# Altium footprint library Data Acquisition - Analog to Digital Converters (ADC).PcbLib: 3 footprints
Each footprint in its own frame and in the unit in brackets; x right, y up, seen from the top. Pads: shape width x height; smd on the part's side, far side on the other; paste and mask are expansions set on the pad; w line width, h text height; cw(c..) or ccw(c..) is an arc to the next point about the centre after c.
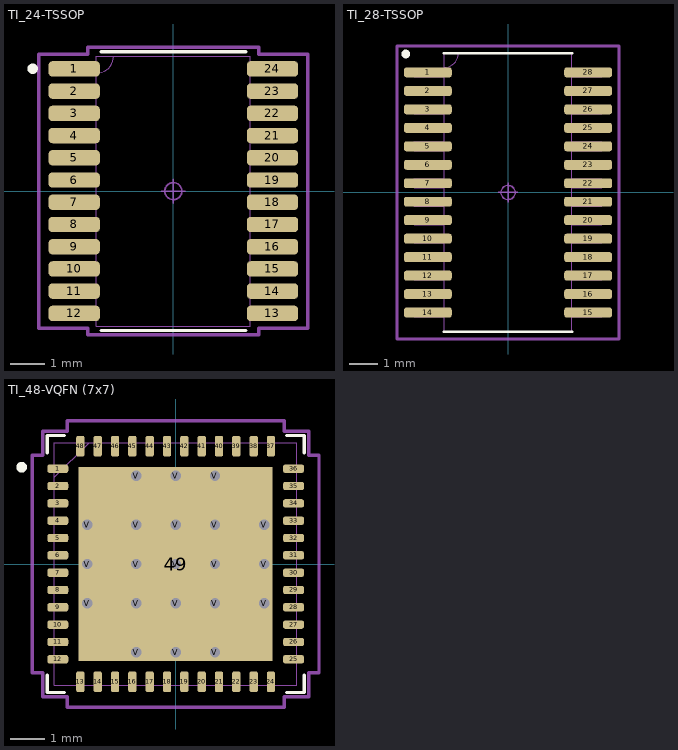
[diagram p0: the footprints below, top view; thin cyan lines are the x and y axes]

## TI_24-TSSOP [mm]
pads (24):
  rrect50% 1.5x0.45 smd mask+0.04: 1(-2.9,3.575) 2(-2.9,2.925) 3(-2.9,2.275) 4(-2.9,1.625) 5(-2.9,0.975) 6(-2.9,0.325) 7(-2.9,-0.325) 8(-2.9,-0.975) 9(-2.9,-1.625) 10(-2.9,-2.275) 11(-2.9,-2.925) 12(-2.9,-3.575) 13(2.9,-3.575) 14(2.9,-2.925) 15(2.9,-2.275) 16(2.9,-1.625) 17(2.9,-0.975) 18(2.9,-0.325) 19(2.9,0.325) 20(2.9,0.975) 21(2.9,1.625) 22(2.9,2.275) 23(2.9,2.925) 24(2.9,3.575)
Top Overlay:
  circle w0.152: c-4.115,3.581 r0.076
  lines w0.1: -2.116,-4.077 2.116,-4.077 ; -2.116,4.077 2.116,4.077
Mechanical 13:
  lines w0.025: -2.248,3.45 ccw(c-2.248,3.95) -1.748,3.95 ; -3.302,-3.727 -2.248,-3.727 -2.248,-3.423 -3.302,-3.423 -3.302,-3.727 ; -3.302,-3.077 -2.248,-3.077 -2.248,-2.773 -3.302,-2.773 -3.302,-3.077 ; -3.302,-2.427 -2.248,-2.427 -2.248,-2.123 -3.302,-2.123 -3.302,-2.427 ; -3.302,-1.777 -2.248,-1.777 -2.248,-1.473 -3.302,-1.473 -3.302,-1.777 ; -3.302,-1.127 -2.248,-1.127 -2.248,-0.823 -3.302,-0.823 -3.302,-1.127 ; -3.302,-0.477 -2.248,-0.477 -2.248,-0.173 -3.302,-0.173 -3.302,-0.477 ; -3.302,0.173 -2.248,0.173 -2.248,0.477 -3.302,0.477 -3.302,0.173 ; -3.302,0.823 -2.248,0.823 -2.248,1.127 -3.302,1.127 -3.302,0.823 ; -3.302,1.473 -2.248,1.473 -2.248,1.777 -3.302,1.777 -3.302,1.473 ; -3.302,2.123 -2.248,2.123 -2.248,2.427 -3.302,2.427 -3.302,2.123 ; -3.302,2.773 -2.248,2.773 -2.248,3.077 -3.302,3.077 -3.302,2.773 ; -3.302,3.423 -2.248,3.423 -2.248,3.727 -3.302,3.727 -3.302,3.423 ; -2.248,-3.95 -2.248,3.95 2.248,3.95 2.248,-3.95 -2.248,-3.95 ; 2.248,-3.727 3.302,-3.727 3.302,-3.423 2.248,-3.423 2.248,-3.727 ; 2.248,-3.077 3.302,-3.077 3.302,-2.773 2.248,-2.773 2.248,-3.077 ; 2.248,-2.427 3.302,-2.427 3.302,-2.123 2.248,-2.123 2.248,-2.427 ; 2.248,-1.777 3.302,-1.777 3.302,-1.473 2.248,-1.473 2.248,-1.777 ; 2.248,-1.127 3.302,-1.127 3.302,-0.823 2.248,-0.823 2.248,-1.127 ; 2.248,-0.477 3.302,-0.477 3.302,-0.173 2.248,-0.173 2.248,-0.477 ; 2.248,0.173 3.302,0.173 3.302,0.477 2.248,0.477 2.248,0.173 ; 2.248,0.823 3.302,0.823 3.302,1.127 2.248,1.127 2.248,0.823 ; 2.248,1.473 3.302,1.473 3.302,1.777 2.248,1.777 2.248,1.473 ; 2.248,2.123 3.302,2.123 3.302,2.427 2.248,2.427 2.248,2.123 ; 2.248,2.773 3.302,2.773 3.302,3.077 2.248,3.077 2.248,2.773 ; 2.248,3.423 3.302,3.423 3.302,3.727 2.248,3.727 2.248,3.423
Mechanical 15:
  circle w0.05: c0,0 r0.25
  lines w0.05: -0.35,0 0.35,0 ; 0,-0.35 0,0.35
  lines w0.1: -3.937,-4.006 -2.502,-4.006 -2.502,-4.204 2.502,-4.204 2.502,-4.006 3.937,-4.006 3.937,4.006 2.502,4.006 2.502,4.204 -2.502,4.204 -2.502,4.006 -3.937,4.006 -3.937,-4.006
3D body "PW0024A.stp": height 1.13, standoff 0, extent -3.2,-3.9 3.2,3.9

## TI_28-TSSOP [mm]
pads (28):
  rrect50% 1.68x0.35 smd mask+0.04: 1(-2.819,4.225) 2(-2.819,3.575) 3(-2.819,2.925) 4(-2.819,2.275) 5(-2.819,1.625) 6(-2.819,0.975) 7(-2.819,0.325) 8(-2.819,-0.325) 9(-2.819,-0.975) 10(-2.819,-1.625) 11(-2.819,-2.275) 12(-2.819,-2.925) 13(-2.819,-3.575) 14(-2.819,-4.225) 15(2.819,-4.225) 16(2.819,-3.575) 17(2.819,-2.925) 18(2.819,-2.275) 19(2.819,-1.625) 20(2.819,-0.975) 21(2.819,-0.325) 22(2.819,0.325) 23(2.819,0.975) 24(2.819,1.625) 25(2.819,2.275) 26(2.819,2.925) 27(2.819,3.575) 28(2.819,4.225)
Top Overlay:
  circle w0.152: c-3.6,4.875 r0.076
  lines w0.1: -2.248,-4.902 2.248,-4.902 ; -2.248,4.902 2.248,4.902
Mechanical 13:
  lines w0.025: -2.248,4.402 ccw(c-2.248,4.902) -1.748,4.902 ; -3.302,-4.377 -2.248,-4.377 -2.248,-4.073 -3.302,-4.073 -3.302,-4.377 ; -3.302,-3.727 -2.248,-3.727 -2.248,-3.423 -3.302,-3.423 -3.302,-3.727 ; -3.302,-3.077 -2.248,-3.077 -2.248,-2.773 -3.302,-2.773 -3.302,-3.077 ; -3.302,-2.427 -2.248,-2.427 -2.248,-2.123 -3.302,-2.123 -3.302,-2.427 ; -3.302,-1.777 -2.248,-1.777 -2.248,-1.473 -3.302,-1.473 -3.302,-1.777 ; -3.302,-1.127 -2.248,-1.127 -2.248,-0.823 -3.302,-0.823 -3.302,-1.127 ; -3.302,-0.477 -2.248,-0.477 -2.248,-0.173 -3.302,-0.173 -3.302,-0.477 ; -3.302,0.173 -2.248,0.173 -2.248,0.477 -3.302,0.477 -3.302,0.173 ; -3.302,0.823 -2.248,0.823 -2.248,1.127 -3.302,1.127 -3.302,0.823 ; -3.302,1.473 -2.248,1.473 -2.248,1.777 -3.302,1.777 -3.302,1.473 ; -3.302,2.123 -2.248,2.123 -2.248,2.427 -3.302,2.427 -3.302,2.123 ; -3.302,2.773 -2.248,2.773 -2.248,3.077 -3.302,3.077 -3.302,2.773 ; -3.302,3.423 -2.248,3.423 -2.248,3.727 -3.302,3.727 -3.302,3.423 ; -3.302,4.073 -2.248,4.073 -2.248,4.377 -3.302,4.377 -3.302,4.073 ; -2.248,-4.902 -2.248,4.902 2.248,4.902 2.248,-4.902 -2.248,-4.902 ; 2.248,-4.377 3.302,-4.377 3.302,-4.073 2.248,-4.073 2.248,-4.377 ; 2.248,-3.727 3.302,-3.727 3.302,-3.423 2.248,-3.423 2.248,-3.727 ; 2.248,-3.077 3.302,-3.077 3.302,-2.773 2.248,-2.773 2.248,-3.077 ; 2.248,-2.427 3.302,-2.427 3.302,-2.123 2.248,-2.123 2.248,-2.427 ; 2.248,-1.777 3.302,-1.777 3.302,-1.473 2.248,-1.473 2.248,-1.777 ; 2.248,-1.127 3.302,-1.127 3.302,-0.823 2.248,-0.823 2.248,-1.127 ; 2.248,-0.477 3.302,-0.477 3.302,-0.173 2.248,-0.173 2.248,-0.477 ; 2.248,0.173 3.302,0.173 3.302,0.477 2.248,0.477 2.248,0.173 ; 2.248,0.823 3.302,0.823 3.302,1.127 2.248,1.127 2.248,0.823 ; 2.248,1.473 3.302,1.473 3.302,1.777 2.248,1.777 2.248,1.473 ; 2.248,2.123 3.302,2.123 3.302,2.427 2.248,2.427 2.248,2.123 ; 2.248,2.773 3.302,2.773 3.302,3.077 2.248,3.077 2.248,2.773 ; 2.248,3.423 3.302,3.423 3.302,3.727 2.248,3.727 2.248,3.423 ; 2.248,4.073 3.302,4.073 3.302,4.377 2.248,4.377 2.248,4.073
Mechanical 15:
  circle w0.05: c0,0 r0.25
  lines w0.05: -0.35,0 0.35,0 ; 0,-0.35 0,0.35
  lines w0.1: -3.912,-5.156 3.912,-5.156 3.912,5.156 -3.912,5.156 -3.912,-5.156
3D body "PW28.step": height 1.2, standoff 0, extent -3.302,-4.902 3.302,4.902

## TI_48-VQFN (7x7) [mm]
pads (70):
  rrect50% 0.6x0.24 smd mask+0.04: 1(-3.4,2.75) 2(-3.4,2.25) 3(-3.4,1.75) 4(-3.4,1.25) 5(-3.4,0.75) 6(-3.4,0.25) 7(-3.4,-0.25) 8(-3.4,-0.75) 9(-3.4,-1.25) 10(-3.4,-1.75) 11(-3.4,-2.25) 12(-3.4,-2.75) 25(3.4,-2.75) 26(3.4,-2.25) 27(3.4,-1.75) 28(3.4,-1.25) 29(3.4,-0.75) 30(3.4,-0.25) 31(3.4,0.25) 32(3.4,0.75) 33(3.4,1.25) 34(3.4,1.75) 35(3.4,2.25) 36(3.4,2.75)
  rrect50% 0.24x0.6 smd mask+0.04: 13(-2.75,-3.4) 14(-2.25,-3.4) 15(-1.75,-3.4) 16(-1.25,-3.4) 17(-0.75,-3.4) 18(-0.25,-3.4) 19(0.25,-3.4) 20(0.75,-3.4) 21(1.25,-3.4) 22(1.75,-3.4) 23(2.25,-3.4) 24(2.75,-3.4) 37(2.75,3.4) 38(2.25,3.4) 39(1.75,3.4) 40(1.25,3.4) 41(0.75,3.4) 42(0.25,3.4) 43(-0.25,3.4) 44(-0.75,3.4) 45(-1.25,3.4) 46(-1.75,3.4) 47(-2.25,3.4) 48(-2.75,3.4)
  rect 5.6x5.6 smd mask+0.04: 49(0,0)
  round 0.3 hole 0.3 unplated: V(-2.55,-1.133) V(-2.55,0) V(-2.55,1.133) V(-1.133,-2.55) V(-1.133,-1.133) V(-1.133,0) V(-1.133,1.133) V(-1.133,2.55) V(0,-2.55) V(0,-1.133) V(0,0) V(0,1.133) V(0,2.55) V(1.133,-2.55) V(1.133,-1.133) V(1.133,0) V(1.133,1.133) V(1.133,2.55) V(2.55,-1.133) V(2.55,0) V(2.55,1.133)
Top Overlay:
  circle w0.152: c-4.445,2.794 r0.076
  lines w0.1: -3.708,-3.21 -3.708,-3.708 -3.21,-3.708 ; -3.708,3.21 -3.708,3.708 -3.21,3.708 ; 3.21,-3.708 3.708,-3.708 3.708,-3.21 ; 3.21,3.708 3.708,3.708 3.708,3.21
Top Paste:
  region: -2.462,2.725 -2.725,2.725 -2.725,2.462 -2.604,2.462 -2.462,2.604
  region: -2.604,2.262 -2.725,2.262 -2.725,1.675 -2.604,1.675 -2.462,1.816 -2.462,2.121
  region: -2.604,1.475 -2.725,1.475 -2.725,0.887 -2.604,0.887 -2.462,1.029 -2.462,1.333
  region: -2.604,0.687 -2.725,0.687 -2.725,0.1 -2.604,0.1 -2.462,0.241 -2.462,0.546
  region: -2.604,-0.1 -2.725,-0.1 -2.725,-0.687 -2.604,-0.687 -2.462,-0.546 -2.462,-0.241
  region: -2.604,-0.887 -2.725,-0.887 -2.725,-1.475 -2.604,-1.475 -2.462,-1.333 -2.462,-1.029
  region: -2.604,-1.675 -2.725,-1.675 -2.725,-2.262 -2.604,-2.262 -2.462,-2.121 -2.462,-1.816
  region: -2.604,-2.462 -2.725,-2.462 -2.725,-2.725 -2.462,-2.725 -2.462,-2.604
Mechanical 13:
  lines w0.025: -3.5,2.5 -2.5,3.5 ; -3.5,-3.5 3.5,-3.5 3.5,3.5 -3.5,3.5 -3.5,-3.5
Mechanical 15:
  circle w0.05: c0,0 r0.25
  lines w0.05: -0.35,0 0.35,0 ; 0,-0.35 0,0.35
  lines w0.1: -4.135,-3.131 -3.835,-3.131 -3.835,-3.835 -3.131,-3.835 -3.131,-4.135 3.131,-4.135 3.131,-3.835 3.835,-3.835 3.835,-3.131 4.135,-3.131 4.135,3.131 3.835,3.131 3.835,3.835 3.131,3.835 3.131,4.135 -3.131,4.135 -3.131,3.835 -3.835,3.835 -3.835,3.131 -4.135,3.131 -4.135,-3.131
3D body "RGZ0048D.stp": height 1, standoff 0, extent -3.5,-3.5 3.5,3.5